# Altium schematic symbol library my_lib.SchLib: 30 symbols
Pins are listed as number, name and electrical type; pins without a type are passive.

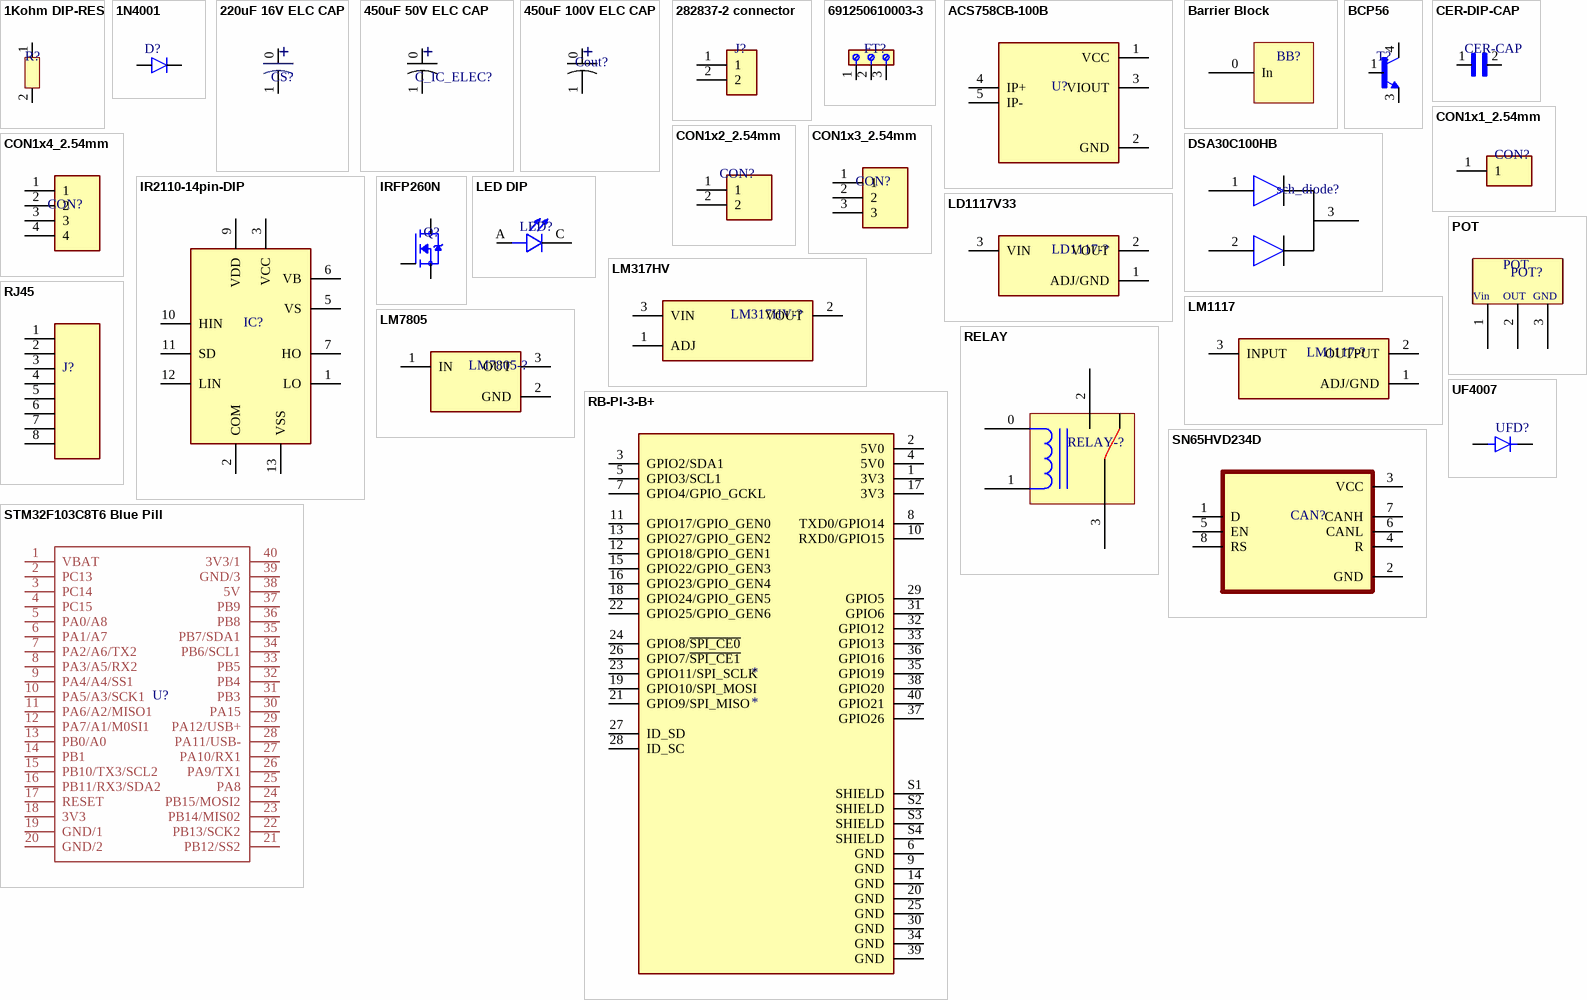
[diagram p0: symbols 1Kohm DIP-RES to UF4007]

## 1Kohm DIP-RES
designator R?  (value not drawn)
footprint 1Kohm DIP-RES
pins: 1, 2

## 1N4001
designator D?  (value not drawn)
footprint 1N4001
pins: A ANODE, C CATHODE

## 220uF 16V ELC CAP
designator CS?  (value not drawn)
footprint 220uF16V-ELEC-CAP
pins: 0, 1
text: +

## 450uF 50V ELC CAP
designator C_IC_ELEC?  (value not drawn)
footprint 470uF50V-ELC-CAP
pins: 0, 1
text: +

## 450uF 100V ELC CAP
designator Cout?  (value not drawn)
footprint 470uF100V-ELC-CAP
pins: 0, 1
text: +

## 282837-2 connector
designator J?  (value not drawn)
footprint 282837-2 connector
pins: 1, 2

## 691250610003-3
designator FT?  (value not drawn)
footprint 691250610003-3 (mosfet ayağı)
pins: 1, 2, 3

## ACS758CB-100B
designator U?  (value not drawn)
footprint ACS758CB-100B
pins: 1 VCC, 2 GND, 3 VIOUT, 4 IP+, 5 IP-

## Barrier Block
designator BB?  (value not drawn)
footprint Barrier Block
pins: 0 In

## BCP56
designator T?  (value not drawn)
footprint BCP56
pins: 1 B, 2 C, 3 E, 4 C

## CER-DIP-CAP
designator CER-CAP  (value not drawn)
footprint CER-DIP-CAP
pins: 1, 2

## CON1x1_2.54mm
designator CON?  (value not drawn)
pins: 1

## CON1x2_2.54mm
designator CON?  (value not drawn)
pins: 1, 2

## CON1x3_2.54mm
designator CON?  (value not drawn)
pins: 1, 2, 3

## CON1x4_2.54mm
designator CON?  (value not drawn)
pins: 1, 2, 3, 4

## DSA30C100HB
designator sch_diode?  (value not drawn)
footprint DSA30C100HB
pins: 1, 2, 3

## IR2110-14pin-DIP
designator IC?  (value not drawn)
footprint IR2110-14Pin-DIP
pins: 1 LO, 2 COM, 3 VCC (power), 5 VS (power), 6 VB (power), 7 HO, 9 VDD (power), 10 HIN, 11 SD, 12 LIN, 13 VSS (power)

## IRFP260N
designator Q?  (value not drawn)
footprint IRFP260N
pins: 1 G, 2 D, 3 S

## LD1117V33
designator LD1117-?  (value not drawn)
footprint LD1117V33
pins: 1 ADJ/GND, 2 VOUT, 3 VIN

## LED DIP
designator LED?  (value not drawn)
footprint LED DIP
pins: A, C

## LM317HV
designator LM317HV-?  (value not drawn)
footprint LM317HV
pins: 1 ADJ, 2 VOUT, 3 VIN

## LM1117
designator LM1117-?  (value not drawn)
footprint LM1117
pins: 1 ADJ/GND (power), 2 OUTPUT, 3 INPUT

## LM7805
designator LM7805-?  (value not drawn)
footprint LM7805
pins: 1 IN, 2 GND (power), 3 OUT

## POT
designator POT?  (value not drawn)
footprint POT
pins: 1 0, 2 1, 3 2
text: Vin; OUT; GND

## RB-PI-3-B+
designator *
footprint RB-PI-3-B+
pins: 1 3V3, 2 5V0, 3 GPIO2/SDA1, 4 5V0, 5 GPIO3/SCL1, 6 GND, 7 GPIO4/GPIO_GCKL, 8 TXD0/GPIO14, 9 GND, 10 RXD0/GPIO15, 11 GPIO17/GPIO_GEN0, 12 GPIO18/GPIO_GEN1, 13 GPIO27/GPIO_GEN2, 14 GND, 15 GPIO22/GPIO_GEN3, 16 GPIO23/GPIO_GEN4, 17 3V3, 18 GPIO24/GPIO_GEN5, 19 GPIO10/SPI_MOSI, 20 GND, 21 GPIO9/SPI_MISO, 22 GPIO25/GPIO_GEN6, 23 GPIO11/SPI_SCLK, 24 GPIO8/~{SPI_CE0}, 25 GND, 26 GPIO7/~{SPI_CE1}, 27 ID_SD, 28 ID_SC, 29 GPIO5, 30 GND, 31 GPIO6, 32 GPIO12, 33 GPIO13, 34 GND, 35 GPIO19, 36 GPIO16, 37 GPIO26, 38 GPIO20, 39 GND, 40 GPIO21, S1 SHIELD, S2 SHIELD, S3 SHIELD, S4 SHIELD

## RELAY
designator RELAY-?  (value not drawn)
pins: 0, 1, 2, 3

## RJ45
designator J?  (value not drawn)
footprint RJ45
pins: 1, 2, 3, 4, 5, 6, 7, 8

## SN65HVD234D
designator CAN?  (value not drawn)
footprint SN65HVD234D
pins: 1 D, 2 GND, 3 VCC, 4 R, 5 EN, 6 CANL, 7 CANH, 8 RS

## STM32F103C8T6 Blue Pill
designator U?  (value not drawn)
footprint STM32F103C8T6 Blue Pill
pins: 1 VBAT, 2 PC13, 3 PC14, 4 PC15, 5 PA0/A8, 6 PA1/A7, 7 PA2/A6/TX2, 8 PA3/A5/RX2, 9 PA4/A4/SS1, 10 PA5/A3/SCK1, 11 PA6/A2/MISO1, 12 PA7/A1/M0SI1, 13 PB0/A0, 14 PB1, 15 PB10/TX3/SCL2, 16 PB11/RX3/SDA2, 17 RESET, 18 3V3, 19 GND/1, 20 GND/2, 21 PB12/SS2, 22 PB13/SCK2, 23 PB14/MIS02, 24 PB15/MOSI2, 25 PA8, 26 PA9/TX1, 27 PA10/RX1, 28 PA11/USB-, 29 PA12/USB+, 30 PA15, 31 PB3, 32 PB4, 33 PB5, 34 PB6/SCL1, 35 PB7/SDA1, 36 PB8, 37 PB9, 38 5V, 39 GND/3, 40 3V3/1

## UF4007
designator UFD?  (value not drawn)
footprint UF4007
pins: A, C K